# Altium schematic symbol library RES,4k,1%,0.125W,0805.Schlib: 1 symbol
Pins are listed as number, name and electrical type; pins without a type are passive.

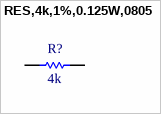
[diagram p0: symbol RES,4k,1%,0.125W,0805]

## RES,4k,1%,0.125W,0805
designator R?, comment 4k
4k±1% 0.125W, 1/8W Chip Resistor 0805 (2012 Metric) Automotive AEC-Q200 Thick Film
pins: 1, 2